# Altium footprint library tin_bridge.PcbLib: 1 footprints
Each footprint in its own frame and in the unit in brackets; x right, y up, seen from the top. Pads: shape width x height; smd on the part's side, far side on the other; paste and mask are expansions set on the pad; w line width, h text height; cw(c..) or ccw(c..) is an arc to the next point about the centre after c.
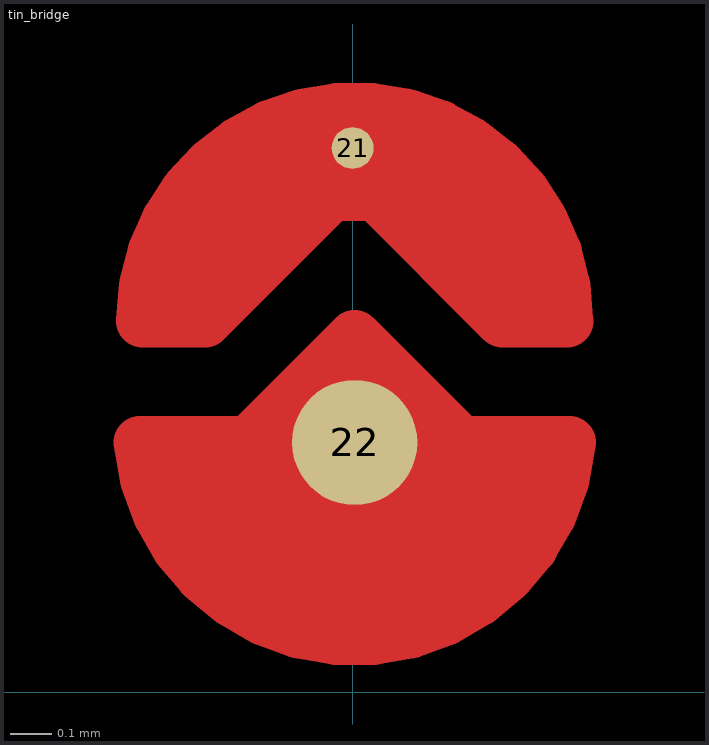
[diagram p0: the footprint, top view; thin cyan lines are the x and y axes]

## tin_bridge [mm]
pads (2):
  round 0.1 smd mask+0: 21(0,1.303)
  round 0.3 smd mask+0: 22(0.005,0.598)
Top Layer:
  region: -0.508,0.889 -0.354,0.889 -0.051,1.192 0.056,1.192 0.359,0.889 0.513,0.889 0.508,0.894 0.381,1.143 0.254,1.397 -0.254,1.397 -0.381,1.143
  region: -0.509,0.598 -0.503,0.598 -0.249,0.127 0.254,0.127 0.519,0.598 0.259,0.598 0.005,0.852 -0.249,0.598 -0.503,0.598
  lines w0.127: -0.509,0.598 ccw(c0.005,0.643) 0.519,0.598 ; -0.503,0.598 -0.249,0.598 0.005,0.852 0.259,0.598 0.513,0.598 ; -0.503,0.889 cw(c0.005,0.889) 0.513,0.889 0.359,0.889 0.056,1.192 0,1.192 -0.051,1.192 -0.354,0.889 -0.503,0.889
Top Solder:
  region: -0.281,1.524 -0.596,1.123 -0.596,0.342 -0.254,0 0.254,0 0.585,0.331 0.604,1.113 0.281,1.524
  lines w0.127: -0.596,0.632 ccw(c0,0.597) 0.596,0.632 0.596,0.955 ccw(c0,0.927) -0.596,0.955 -0.596,0.632